# Altium integrated library RC2512FK-0720RL.IntLib: 1 symbol
Pins are listed as number, name and electrical type; pins without a type are passive.

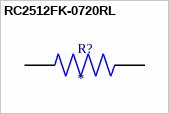
[diagram p0: symbol RC2512FK-0720RL]

## RC2512FK-0720RL
designator R?
RES SMD 20 OHM 1% 1W 2512; MP: RC2512FK-0720RL; Package: None; Price: None; Value: *; Availability: Unavailable
footprint RESC6331X65N
pins: 1, 2